# Altium footprint library VALCON_CSP-USC16-TR.PcbLib: 1 footprints
Each footprint in its own frame and in the unit in brackets; x right, y up, seen from the top. Pads: shape width x height; smd on the part's side, far side on the other; paste and mask are expansions set on the pad; w line width, h text height; cw(c..) or ccw(c..) is an arc to the next point about the centre after c.
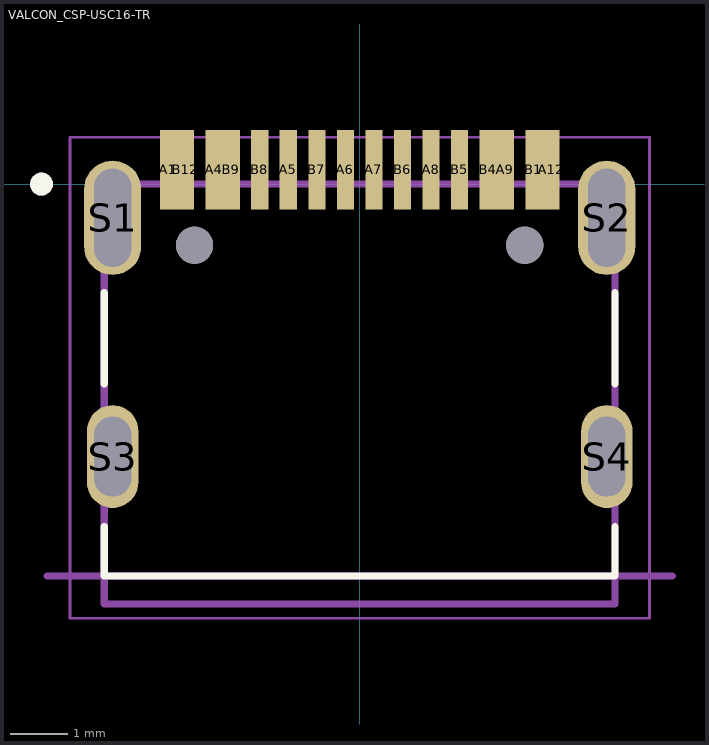
[diagram p0: the footprint, top view; thin cyan lines are the x and y axes]

## VALCON_CSP-USC16-TR [mm]
pads (22):
  rect 0.3x1.394 smd: A1(-3.35,0.254) A4(-2.55,0.254) A5(-1.25,0.254) A6(-0.25,0.254) A7(0.25,0.254) A8(1.25,0.254) A9(2.55,0.254) A12(3.35,0.254) B1(3.05,0.254) B4(2.25,0.254) B5(1.75,0.254) B6(0.75,0.254) B7(-0.75,0.254) B8(-1.75,0.254) B9(-2.25,0.254) B12(-3.05,0.254)
  oval 1x2 hole 0.65 slot 1.72 at 90 deg: S1(-4.325,-0.59) S2(4.325,-0.59)
  oval 0.9x1.8 hole 0.65 slot 1.4 at 90 deg: S3(-4.325,-4.77) S4(4.325,-4.77)
  round 0.65 hole 0.65 unplated: ""(-2.89,-1.07) ""(2.89,-1.07)
Top Overlay:
  circle w0.2: c-5.57,0 r0.1
  lines w0.127: -4.47,-6 -4.47,-6.86 4.47,-6.86 4.47,-6 ; -4.47,-3.5 -4.47,-1.9 ; 4.47,-3.5 4.47,-1.9
Mechanical 13:
  circle w0.2: c-5.57,0 r0.1
  lines w0.127: -5.47,-6.86 5.47,-6.86 ; -4.47,-7.35 -4.47,0 4.47,0 4.47,-7.35 -4.47,-7.35
  text "PCB Edge" at -2.07,-6.6 h0.7
Mechanical 15:
  lines w0.05: -5.07,-7.6 -5.07,0.82 5.07,0.82 5.07,-7.6 -5.07,-7.6
3D body "step_temp.STEP": height 3.26, standoff -1, extent -4.47,-7.296 4.47,0.454